# Altium integrated library WL-TMRC.IntLib: 1 symbol
Pins are listed as number, name and electrical type; pins without a type are passive.

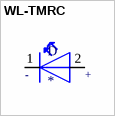
[diagram p0: symbol WL-TMRC]

## WL-TMRC
designator D
Red 645nm LED Indication - Discrete 2.1V Radial; MP: 151051RS11000; MF: Wurth Electronics; Availability: Unavailable; Price: None; Package: Radial WÃ¼rth Elektronik; SnapEDA_Link: https://www.snapeda.com/parts/151051RS11000/Wurth%20Electronics%20Inc./view-part/609297/?ref=snap; Value: *
footprint LED-3MM-ROUND
pins: 1 NEG (io), 2 POS (io)
text: -; +